# Altium footprint library RFID  Board PCB.PcbLib: 57 footprints (part 3 of 4)
Each footprint in its own frame and in the unit in brackets; x right, y up, seen from the top. Pads: shape width x height; smd on the part's side, far side on the other; paste and mask are expansions set on the pad; w line width, h text height; cw(c..) or ccw(c..) is an arc to the next point about the centre after c.
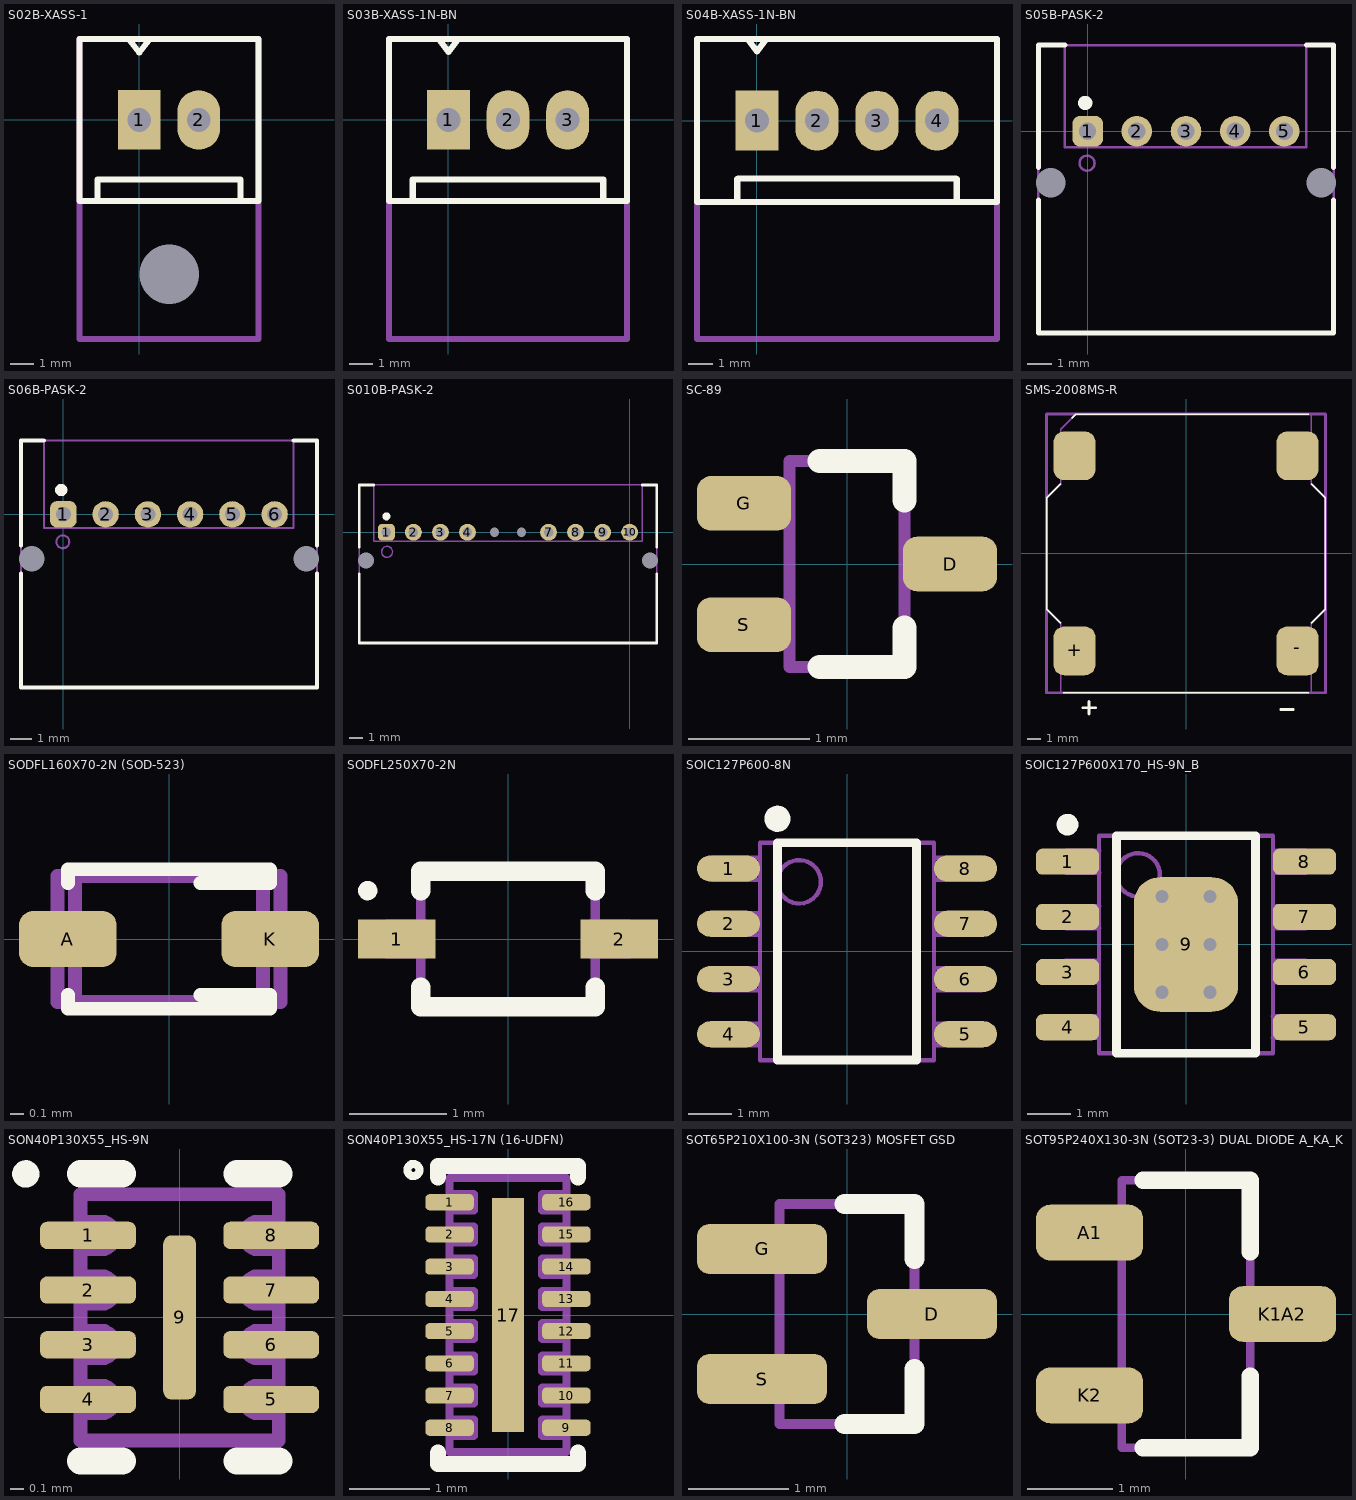
[diagram p2: the footprints below, top view; thin cyan lines are the x and y axes]

## S02B-XASS-1 [mm] "JST - XA Side Entry, 2 ways, 2.5mm pitch"
height 7.6
pads (3):
  rect 1.8x2.5 hole 1: 1(0,0)
  oval 1.8x2.5 hole 1: 2(2.5,0)
  round 0 hole 2.5 unplated: ""(1.27,-6.477)
Top Overlay:
  lines w0.254: -2.5,-3.4 -2.5,3.4 ; -2.5,-3.4 5,-3.4 5,3.4 -2.5,3.4 ; -1.75,-3.4 -1.75,-2.5 ; -1.7,-2.5 4.2,-2.5 ; -0.381,3.333 0,2.825 0.381,3.333 ; 4.25,-3.4 4.25,-2.5
Mechanical 5:
  lines w0.254: -2.5,-9.2 -2.5,3.4 5,3.4 5,-9.2 -2.5,-9.2
3D body "S02B-XASS-1.STEP": height 7.6, standoff -3.5, extent -2.48,-9.171 5.02,3.429

## S03B-XASS-1N-BN [mm] "JST - XA Side entry Connector 3 ways"
height 7.6
pads (3):
  rect 1.8x2.5 hole 1: 1(0,0)
  oval 1.8x2.5 hole 1: 2(2.5,0) 3(5,0)
Top Overlay:
  lines w0.254: -1.5,-3.4 -1.5,-2.5 6.5,-2.5 6.5,-3.4 ; -0.381,3.358 0,2.85 0.381,3.358 ; -2.5,-3.4 7.5,-3.4 7.5,3.4 -2.5,3.4 -2.5,-3.4
Mechanical 5:
  lines w0.254: -2.5,-9.2 -2.5,3.4 7.5,3.4 7.5,-9.2 -2.5,-9.2
3D body "S03B-XASS-1N-BN.STEP": height 2.75, standoff -8.05, extent -2.5,-9.2 7.5,3.4

## S04B-XASS-1N-BN [mm] "JST - XA Side Entry, 4 ways, 2.5mm pitch"
height 7.6
pads (4):
  rect 1.8x2.5 hole 1: 1(0,0)
  oval 1.8x2.5 hole 1: 2(2.5,0) 3(5,0) 4(7.5,0)
Top Overlay:
  lines w0.254: -0.822,-3.4 -0.822,-2.438 ; -0.8,-2.413 8.3,-2.413 ; -0.381,3.383 0,2.875 0.381,3.383 ; 8.322,-3.4 8.322,-2.438 ; -2.5,-3.4 10,-3.4 10,3.4 -2.5,3.4 -2.5,-3.4
Mechanical 5:
  lines w0.254: -2.5,-9.1 -2.5,3.4 10,3.4 10,-9.1 -2.5,-9.1
3D body "S04B-XASS-1N-BN.STEP": height 2.75, standoff -8.05, extent -2.5,-9.1 10,3.5

## S05B-PASK-2 [mm]
height 7
pads (7):
  rrect50% 1.25x1.25 hole 0.7: 1(0,0)
  round 1.25 hole 0.7: 2(2,0) 3(4,0) 4(6,0) 5(8,0)
  round 0 hole 1.2 unplated paste-5 mask-5: ""(-1.5,-2.1) ""(9.5,-2.1)
Top Overlay:
  circle w0.3: c-0.1,1.15 r0.141
  lines w0.2: -2,-2.8 -2,-8.2 10,-8.2 10,-2.8 ; -2,-1.475 -2,3.5 -0.925,3.5 ; 8.9,3.5 10,3.5 10,-1.475
Mechanical 13:
  circle w0.1: c-0.025,-1.3 r0.305
  lines w0.1: -2,-8.2 10,-8.2 ; -2,-8.2 -2,-8.2 ; -2,-8.2 -2,3.5 10,3.5 ; -2,-8.2 -2,-8.2 ; 10,-8.2 10,3.5 ; 10,-8.2 10,-8.2 ; 10,3.5 10,3.5
  text ".Designator" at 0.725,-3.875 h1.5
Mechanical 15:
  lines w0.102: -2,-8.2 -2,3.5 -0.925,3.5 -0.925,-0.65 -0.6,-0.65 8.9,-0.65 8.9,3.5 10,3.5 ; -2,-8.2 -2,-8.2 ; -2,-8.2 10,-8.2 ; 10,-8.2 10,-5.275 10,0.575 10,3.5 ; 10,-8.2 10,-8.2 ; 10,3.5 10,3.5
3D body "S05B-PASK-2.STEP": height 6.5, standoff -3.4, extent -2,-8.2 10,3.5

## S06B-PASK-2 [mm]
height 7
pads (8):
  rrect50% 1.25x1.25 hole 0.7: 1(0,0)
  round 1.25 hole 0.7: 2(2,0) 3(4,0) 4(6,0) 5(8,0) 6(10,0)
  round 0 hole 1.2 unplated paste-5 mask-5: ""(-1.5,-2.1) ""(11.5,-2.1)
Top Overlay:
  circle w0.3: c-0.1,1.15 r0.141
  lines w0.2: -2,-2.8 -2,-8.2 12,-8.2 12,-2.8 ; -2,-1.475 -2,3.5 -0.925,3.5 ; 10.9,3.5 12,3.5 12,-1.475
Mechanical 13:
  circle w0.1: c-0.025,-1.3 r0.305
  lines w0.1: -2,-8.2 12,-8.2 ; -2,-8.2 -2,-8.2 ; -2,-8.2 -2,3.5 12,3.5 ; -2,-8.2 -2,-8.2 ; 12,-8.2 12,3.5 ; 12,-8.2 12,-8.2 ; 12,3.5 12,3.5
  text ".Designator" at 0.725,-3.875 h1.5
Mechanical 15:
  lines w0.102: -2,-8.2 -2,3.5 -0.925,3.5 -0.925,-0.65 -0.6,-0.65 10.9,-0.65 10.9,3.5 12,3.5 ; -2,-8.2 -2,-8.2 ; -2,-8.2 12,-8.2 ; 12,-8.2 12,-5.275 12,0.575 12,3.5 ; 12,-8.2 12,-8.2 ; 12,3.5 12,3.5
3D body "S06B-PASK-2.STEP": height 6.5, standoff -3.4, extent -2,-8.2 12,3.5

## S010B-PASK-2 [mm]
height 7
pads (12):
  rrect50% 1.25x1.25 hole 0.7: 1(-18,0)
  round 1.25 hole 0.7: 2(-16,0) 3(-14,0) 4(-12,0) 7(-6,0) 8(-4,0) 9(-2,0) 10(0,0)
  round 0 hole 0.7 unplated paste+0 mask+0: 5(-10,0) 6(-8,0)
  round 0 hole 1.2 unplated paste-5 mask-5: ""(-19.5,-2.1) ""(1.5,-2.1)
Top Overlay:
  circle w0.3: c-18,1.175 r0.141
  lines w0.2: -20,-3.075 -20,-8.2 ; -20,-1.1 -20,3.5 -18.925,3.5 ; 0.925,3.5 2,3.5 2,-1.1 ; 2,-3.075 2,-8.2 ; -20,-8.2 -20,-8.2 ; -20,-8.2 2,-8.2 ; 2,-8.2 2,-8.2 ; 2,-8.2 2,-8.2
Mechanical 13:
  circle w0.1: c-17.95,-1.45 r0.407
  lines w0.1: -20,-8.2 -20,3.5 2,3.5 ; -20,-8.2 -20,-8.2 ; -20,-8.2 2,-8.2 ; 2,-8.2 2,-8.2 ; 2,-8.2 2,3.5 ; 2,3.5 2,3.5
  text ".Designator" at -9.15,-3.125 h1.5
Mechanical 15:
  lines w0.102: -18.925,3.5 -20,3.5 -20,-8.2 2,-8.2 2,3.5 ; -18.925,3.5 -18.925,3.5 ; -18.925,3.5 -18.925,-0.675 0.925,-0.675 0.925,3.5 ; 0.925,3.5 2,3.5 ; 0.925,3.5 0.925,3.5 ; 2,3.5 2,3.5
3D body "S10B-PASK-2.STEP": height 6.5, standoff -3.4, extent -20,-8.2 2,3.5

## SC-89 [mm] "SOT89, 3-Leads, Body 1.7x1.7mm (max), Pitch 0.50mm, IPC Medium Density"
height 0.8
pads (3):
  rrect50% 0.775x0.45 smd: D(0.85,0) G(-0.85,0.5) S(-0.85,-0.5)
Top Overlay:
  lines w0.2: -0.225,-0.85 0.475,-0.85 0.475,-0.525 ; -0.225,0.85 0.475,0.85 0.475,0.525
Mechanical 13:
  lines w0.1: -0.475,-0.85 0.475,-0.85 0.475,0.85 -0.475,0.85 -0.475,-0.85
  text ".Designator" at -0.2,0.725 h0.4
Mechanical 15:
  lines w0.1: -0.975,-0.665 -0.475,-0.665 -0.475,-0.335 -0.975,-0.335 -0.975,-0.665 ; -0.975,0.335 -0.475,0.335 -0.475,0.665 -0.975,0.665 -0.975,0.335 ; -0.475,-0.85 -0.475,0.85 0.475,0.85 0.475,-0.85 -0.475,-0.85 ; 0.475,-0.165 0.475,0.165 0.975,0.165 0.975,-0.165 0.475,-0.165
3D body: height 0.8, standoff 0, extent -0.475,-0.85 0.475,0.85

## SMS-2008MS-R [mm] "Speaker SMT, 20x20mm"
height 4.5
pads (4):
  rrect50% 3x3.5 smd: +(-8,-7) -(8,-7) ""(-8,7) ""(8,7)
Top Overlay:
  lines w0.1: -9,-5 -10,-4 -10,0 -10,4 -9,5 ; -8.825,-10 8.825,-10 ; -8.2,9.7 -7.9,10 8.825,10 ; 9,-5 10,-4 10,0 10,4 9,5
  lines w0.2: -7.4,-11.075 -6.5,-11.075 ; -6.95,-11.525 -6.95,-10.625 ; 6.8,-11.2 7.7,-11.2
Mechanical 13:
  circle w0.1: c-7.1,-6 r0.5
  lines w0.2: -10,-10 10,-10 10,10 -10,10 -10,-10
  text ".Designator" at -5.85,0.325 h2
Mechanical 15:
  lines w0.1: -10,-4 -10,0 -10,4 -9,5 -9,8.9 -8.2,9.7 -7.9,10 9,10 9,5 10,4 10,0 10,-4 9,-5 9,-10 -9,-10 -9,-5 -10,-4 ; -9,-8.5 -9,-5.5 -7,-5.5 -7,-8.5 -9,-8.5 ; -9,5.5 -7,5.5 -7,8.5 -9,8.5 -9,5.5 ; 7,-8.5 9,-8.5 9,-5.5 7,-5.5 7,-8.5 ; 7,5.5 9,5.5 9,8.5 7,8.5 7,5.5
3D body "SMS-2008MS-R.stp": height 4.75, standoff 0.15, extent -10,-10 10,10

## SODFL160X70-2N (SOD-523) [mm] "SODFL, 2-Leads, Body 0.80x1.60mm, IPC Medium Density"
height 0.7
pads (2):
  rrect50% 0.7x0.4 smd: A(-0.725,0) K(0.725,0)
Top Overlay:
  lines w0.1: -0.725,-0.4 -0.725,-0.5 0.725,-0.5 0.725,-0.4 0.225,-0.4 ; -0.725,0.4 -0.725,0.5 0.725,0.5 0.725,0.4 0.225,0.4
Mechanical 13:
  lines w0.1: -0.8,-0.45 0.8,-0.45 0.8,0.45 -0.8,0.45 -0.8,-0.45
  text ".Designator" at -0.25,-0.125 h0.3
Mechanical 15:
  lines w0.1: -0.675,-0.475 0.675,-0.475 ; -0.675,-0.45 -0.675,0.45 ; -0.675,0.475 0.675,0.475 ; 0.675,-0.45 0.675,0.45 ; -0.85,-0.15 -0.85,0.15 -0.55,0.15 -0.55,-0.15 -0.85,-0.15 ; 0.55,-0.15 0.85,-0.15 0.85,0.15 0.55,0.15 0.55,-0.15
3D body "SOD-523F.STEP": height 0.7, standoff 0, extent -0.8,-0.399 0.8,0.399

## SODFL250X70-2N [mm] "SODFL, 2-Leads, Body 1.25x2.50mm, IPC Medium Density"
height 0.7
pads (2):
  rect 0.8x0.4 smd: 1(-1.15,0) 2(1.15,0)
Top Overlay:
  circle w0.1: c-1.45,0.5 r0.05
  lines w0.2: -0.9,-0.5 -0.9,-0.7 0.9,-0.7 0.9,-0.5 ; -0.9,0.5 -0.9,0.7 0.9,0.7 0.9,0.5
Mechanical 13:
  lines w0.1: -0.9,-0.675 0.9,-0.675 0.9,0.675 -0.9,0.675 -0.9,-0.675
  text ".Designator" at -0.675,-0.175 h0.5
Mechanical 15:
  lines w0.1: -1.25,-0.15 -0.85,-0.15 -0.85,0.15 -1.25,0.15 -1.25,-0.15 ; -0.9,-0.7 -0.9,0.7 0.9,0.7 0.9,-0.7 -0.9,-0.7 ; 0.85,-0.15 1.25,-0.15 1.25,0.15 0.85,0.15 0.85,-0.15
3D body: height 0.7, standoff 0, extent -0.9,-0.675 0.9,0.675

## SOIC127P600-8N [mm]
height 1.7
pads (8):
  oval 1.45x0.6 smd: 1(-2.725,1.905) 2(-2.725,0.635) 3(-2.725,-0.635) 4(-2.725,-1.905) 5(2.725,-1.905) 6(2.725,-0.635) 7(2.725,0.635) 8(2.725,1.905)
Top Overlay:
  circle w0.3: c-1.6,3.05 r0.15
  lines w0.2: -1.6,-2.5 1.6,-2.5 1.6,2.5 -1.6,2.5 -1.6,-2.5
Mechanical 13:
  circle w0.1: c-1.1,1.6 r0.5
  lines w0.1: -2,-2.5 2,-2.5 2,2.5 -2,2.5 -2,-2.5
  text ".Designator" at -1.475,-0.75 h1.5
Mechanical 15:
  lines w0.1: -2,-2.16 -2.625,-2.16 ; -2,-1.66 -2.625,-1.66 ; -2,-0.89 -2.625,-0.89 ; -2,-0.39 -2.625,-0.39 ; -2,0.38 -2.625,0.38 ; -2,0.88 -2.625,0.88 ; -2,1.65 -2.625,1.65 ; -2,2.15 -2.625,2.15 ; 2,-2.16 2.625,-2.16 ; 2,-1.66 2.625,-1.66 ; 2,-0.89 2.625,-0.89 ; 2,-0.39 2.625,-0.39 ; 2,0.38 2.625,0.38 ; 2,0.88 2.625,0.88 ; 2,1.65 2.625,1.65 ; 2,2.15 2.625,2.15 ; -2.625,-2.16 -2.625,-1.66 ; -2.625,-2.16 -3.1,-2.16 -3.1,-1.66 -2.625,-1.66 ; -2.625,-0.89 -2.625,-0.39 ; -2.625,-0.89 -3.1,-0.89 -3.1,-0.39 -2.625,-0.39 ; -2.625,0.38 -2.625,0.88 ; -2.625,0.38 -3.1,0.38 -3.1,0.88 -2.625,0.88 ; -2.625,1.65 -2.625,2.15 ; -2.625,1.65 -3.1,1.65 -3.1,2.15 -2.625,2.15 ; 2.625,-2.16 3.1,-2.16 3.1,-1.66 2.625,-1.66 ; 2.625,-2.16 2.625,-1.66 ; 2.625,-0.89 3.1,-0.89 3.1,-0.39 2.625,-0.39 ; 2.625,-0.89 2.625,-0.39 ; 2.625,0.38 3.1,0.38 3.1,0.88 2.625,0.88 ; 2.625,0.38 2.625,0.88 ; 2.625,1.65 3.1,1.65 3.1,2.15 2.625,2.15 ; 2.625,1.65 2.625,2.15 ; -2,-2.5 2,-2.5 2,2.5 -2,2.5 -2,-2.5
3D body: height 1.7, standoff 0.1, extent -2,-2.5 2,2.5

## SOIC127P600X170_HS-9N_B [mm] "SOIC, 8-Leads, Body 4.90x3.90mm, Pitch 1.27mm, Thermal Pad 3.10x2.40mm, IPC Medium Density"
height 1.7
pads (9):
  rrect50% 1.45x0.6 smd: 1(-2.725,1.905) 2(-2.725,0.635) 3(-2.725,-0.635) 4(-2.725,-1.905) 5(2.725,-1.905) 6(2.725,-0.635) 7(2.725,0.635) 8(2.725,1.905)
  rrect50% 2.4x3.1 smd: 9(0,0)
via -0.55,1.1 diameter 0.5 hole 0.3
via 0.55,1.1 diameter 0.5 hole 0.3
via -0.55,0 diameter 0.5 hole 0.3
via 0.55,0 diameter 0.5 hole 0.3
via -0.55,-1.1 diameter 0.5 hole 0.3
via 0.55,-1.1 diameter 0.5 hole 0.3
Top Overlay:
  circle w0.25: c-2.725,2.755 r0.125
  lines w0.2: -1.6,-2.5 -1.6,2.5 1.6,2.5 1.6,-2.5 -1.6,-2.5
Mechanical 13:
  circle w0.1: c-1.1,1.6 r0.5
  lines w0.1: -2,-2.5 -2,2.5 2,2.5 2,-2.5 -2,-2.5
  text ".Designator" at 1,-2.425 h1.5
Mechanical 15:
  lines w0.1: -2,-2.5 -2,2.5 2,2.5 2,-2.5 -2,-2.5
  lines w0.102: -2.05,-0.875 -2.775,-0.875 -2.775,-0.375 -2.05,-0.375 ; -2.025,-2.15 -2.75,-2.15 -2.75,-1.65 -2.025,-1.65 ; -2,0.375 -2.75,0.375 -2.75,0.875 -2,0.875 ; -2,1.65 -2.75,1.65 -2.75,2.15 -2,2.15 ; 2,-2.15 2.75,-2.15 2.75,-1.65 2,-1.65 ; 2.025,1.65 2.75,1.65 2.75,2.15 2.025,2.15 ; 2.05,-0.875 2.75,-0.875 2.75,-0.375 2.05,-0.375 ; 2.075,0.375 2.75,0.375 2.75,0.875 2.075,0.875
3D body: height 1.7, standoff 0.1, extent -2,-2.5 2,2.5

## SON40P130X55_HS-9N [mm] "SON, 8-Leads, Body 1.70x1.35mm, Pitch 0.40mm, Thermal Pad 1.20x0.24mm, IPC Medium Density"
height 0.55
pads (9):
  rrect50% 0.7x0.2 smd: 1(-0.67,0.6) 2(-0.67,0.2) 3(-0.67,-0.2) 4(-0.67,-0.6) 5(0.67,-0.6) 6(0.67,-0.2) 7(0.67,0.2) 8(0.67,0.6)
  rrect50% 0.24x1.2 smd: 9(0,0)
Top Overlay:
  circle w0.1: c-1.125,1.05 r0.05
  lines w0.2: -0.725,-1.05 -0.42,-1.05 ; -0.725,1.05 -0.42,1.05 ; 0.42,-1.05 0.725,-1.05 ; 0.42,1.05 0.725,1.05
Mechanical 13:
  lines w0.1: -0.725,-0.9 0.725,-0.9 0.725,0.9 -0.725,0.9 -0.725,-0.9
  text ".Designator" at -0.42,-0.225 h0.6
Mechanical 15:
  lines w0.1: -0.725,-0.7 -0.55,-0.7 ; -0.725,-0.5 -0.55,-0.5 ; -0.725,-0.3 -0.55,-0.3 ; -0.725,-0.1 -0.55,-0.1 ; -0.725,0.1 -0.55,0.1 ; -0.725,0.3 -0.55,0.3 ; -0.725,0.5 -0.55,0.5 ; -0.725,0.7 -0.55,0.7 ; -0.575,-0.7 ccw(c-0.575,-0.6) -0.575,-0.5 ; -0.575,-0.3 ccw(c-0.575,-0.2) -0.575,-0.1 ; -0.575,0.1 ccw(c-0.575,0.2) -0.575,0.3 ; -0.575,0.5 ccw(c-0.575,0.6) -0.575,0.7 ; 0.55,-0.7 0.725,-0.7 ; 0.55,-0.5 0.725,-0.5 ; 0.55,-0.3 0.725,-0.3 ; 0.55,-0.1 0.725,-0.1 ; 0.55,0.1 0.725,0.1 ; 0.55,0.3 0.725,0.3 ; 0.55,0.5 0.725,0.5 ; 0.55,0.7 0.725,0.7 ; 0.575,-0.7 cw(c0.575,-0.6) 0.575,-0.5 ; 0.575,-0.3 cw(c0.575,-0.2) 0.575,-0.1 ; 0.575,0.1 cw(c0.575,0.2) 0.575,0.3 ; 0.575,0.5 cw(c0.575,0.6) 0.575,0.7 ; -0.725,-0.9 0.725,-0.9 0.725,0.9 -0.725,0.9 -0.725,-0.9
3D body: height 0.55, standoff 0.05, extent -0.725,-0.9 0.725,0.9

## SON40P130X55_HS-17N (16-UDFN) [mm] "SON, 16-Leads, Body 3.30x1.35mm, Pitch 0.40mm, Thermal Pad 2.90x0.24mm, IPC Medium Density"
height 0.55
pads (17):
  rrect50% 0.6x0.2 smd: 1(-0.725,1.4) 2(-0.725,1) 3(-0.725,0.6) 4(-0.725,0.2) 5(-0.725,-0.2) 6(-0.725,-0.6) 7(-0.725,-1) 8(-0.725,-1.4) 9(0.725,-1.4) 10(0.725,-1) 11(0.725,-0.6) 12(0.725,-0.2) 13(0.725,0.2) 14(0.725,0.6) 15(0.725,1) 16(0.725,1.4)
  rect 0.4x2.9 smd: 17(0,0)
Top Overlay:
  circle w0.1: c-1.175,1.8 r0.075
  lines w0.2: -0.87,-1.71 -0.87,-1.85 -0.83,-1.85 0.869,-1.85 0.87,-1.85 0.87,-1.71 ; -0.87,1.71 -0.87,1.85 -0.869,1.85 0.83,1.85 0.87,1.85 0.87,1.71
Mechanical 13:
  lines w0.1: -0.725,-1.7 -0.725,1.7 0.725,1.7 0.725,-1.7 -0.725,-1.7
  text ".Designator" at 0.175,-0.825 h0.5
Mechanical 15:
  lines w0.1: -0.725,-1.7 -0.725,1.7 0.725,1.7 0.725,-1.7 -0.725,-1.7 ; -0.725,-1.5 -0.725,-1.3 -0.425,-1.3 -0.425,-1.5 -0.725,-1.5 ; -0.725,-1.1 -0.425,-1.1 -0.425,-0.9 -0.725,-0.9 -0.725,-1.1 ; -0.725,-0.7 -0.725,-0.5 -0.425,-0.5 -0.425,-0.7 -0.725,-0.7 ; -0.725,-0.3 -0.425,-0.3 -0.425,-0.1 -0.725,-0.1 -0.725,-0.3 ; -0.725,0.1 -0.725,0.3 -0.425,0.3 -0.425,0.1 -0.725,0.1 ; -0.725,0.5 -0.425,0.5 -0.425,0.7 -0.725,0.7 -0.725,0.5 ; -0.725,0.9 -0.725,1.1 -0.425,1.1 -0.425,0.9 -0.725,0.9 ; -0.725,1.3 -0.425,1.3 -0.425,1.5 -0.725,1.5 -0.725,1.3 ; 0.425,-1.5 0.725,-1.5 0.725,-1.3 0.425,-1.3 0.425,-1.5 ; 0.425,-1.1 0.725,-1.1 0.725,-0.9 0.425,-0.9 0.425,-1.1 ; 0.425,-0.7 0.725,-0.7 0.725,-0.5 0.425,-0.5 0.425,-0.7 ; 0.425,-0.3 0.725,-0.3 0.725,-0.1 0.425,-0.1 0.425,-0.3 ; 0.425,0.1 0.725,0.1 0.725,0.3 0.425,0.3 0.425,0.1 ; 0.425,0.5 0.725,0.5 0.725,0.7 0.425,0.7 0.425,0.5 ; 0.425,0.9 0.725,0.9 0.725,1.1 0.425,1.1 0.425,0.9 ; 0.425,1.3 0.725,1.3 0.725,1.5 0.425,1.5 0.425,1.3
3D body: height 0.55, standoff 0, extent -0.725,-1.7 0.725,1.7
3D body: height 0.13, standoff -0.01, extent -0.728,1.3 -0.428,1.5
3D body: height 0.13, standoff -0.01, extent -0.728,0.9 -0.428,1.1
3D body: height 0.13, standoff -0.01, extent -0.728,0.5 -0.428,0.7
3D body: height 0.13, standoff -0.01, extent -0.728,0.1 -0.428,0.3
3D body: height 0.13, standoff -0.01, extent -0.728,-0.3 -0.428,-0.1
3D body: height 0.13, standoff -0.01, extent -0.728,-0.7 -0.428,-0.5
3D body: height 0.13, standoff -0.01, extent -0.728,-1.1 -0.428,-0.9
3D body: height 0.13, standoff -0.01, extent -0.728,-1.5 -0.428,-1.3
3D body: height 0.13, standoff -0.01, extent 0.428,-1.5 0.728,-1.3
3D body: height 0.13, standoff -0.01, extent 0.428,-1.1 0.728,-0.9
3D body: height 0.13, standoff -0.01, extent 0.428,-0.7 0.728,-0.5
3D body: height 0.13, standoff -0.01, extent 0.428,-0.3 0.728,-0.1
3D body: height 0.13, standoff -0.01, extent 0.428,0.1 0.728,0.3
3D body: height 0.13, standoff -0.01, extent 0.428,0.5 0.728,0.7
3D body: height 0.13, standoff -0.01, extent 0.428,0.9 0.728,1.1
3D body: height 0.13, standoff -0.01, extent 0.428,1.3 0.728,1.5

## SOT65P210X100-3N (SOT323) MOSFET GSD [mm] "SOT323, 3-Leads, Body 2.2x2.2mm (max), Pitch 0.65mm, IPC Medium Density"
height 1.1
pads (3):
  rrect50% 1.3x0.5 smd: D(0.85,0) G(-0.85,0.65) S(-0.85,-0.65)
Top Overlay:
  lines w0.2: -0.025,-1.1 0.675,-1.1 0.675,-0.55 ; -0.025,1.1 0.675,1.1 0.675,0.55
Mechanical 13:
  lines w0.1: -0.675,-1.1 0.675,-1.1 0.675,1.1 -0.675,1.1 -0.675,-1.1
  text ".Designator" at -0.25,0.925 h0.5
Mechanical 15:
  lines w0.1: -0.675,-0.85 -1.075,-0.85 -1.075,-0.45 -0.675,-0.45 ; -0.675,0.45 -1.075,0.45 -1.075,0.85 -0.675,0.85 ; 0.675,-0.2 1.075,-0.2 1.075,0.2 0.675,0.2 ; -0.675,-1.1 -0.675,1.1 0.675,1.1 0.675,-1.1 -0.675,-1.1
3D body: height 1.1, standoff 0.1, extent -0.675,-1.1 0.675,1.1

## SOT95P240X130-3N (SOT23-3) DUAL DIODE A_KA_K [mm] "SOT23, 3-Leads, Body 3.1x2.7mm (max), Pitch 0.95mm, IPC Medium Density"
height 1.3
pads (3):
  rrect50% 1.25x0.65 smd: A1(-1.125,0.95) K1A2(1.125,0) K2(-1.125,-0.95)
Top Overlay:
  lines w0.2: -0.5,-1.56 0.75,-1.56 0.75,-0.725 ; -0.5,1.56 0.75,1.56 0.75,0.725
Mechanical 13:
  lines w0.1: -0.75,-1.56 0.75,-1.56 0.75,1.56 -0.75,1.56 -0.75,-1.56
  text ".Designator" at -0.35,1.3 h0.7
Mechanical 15:
  lines w0.1: -0.9,-1.19 -0.75,-1.19 -0.75,-0.71 -0.9,-0.71 ; -0.9,-1.19 -0.9,-0.71 ; -0.9,-1.19 -1.35,-1.19 -1.35,-0.71 -0.9,-0.71 ; -0.9,0.71 -1.35,0.71 -1.35,1.19 -0.9,1.19 ; -0.9,0.71 -0.9,1.19 ; -0.9,0.71 -0.75,0.71 -0.75,1.19 -0.9,1.19 ; 0.9,-0.24 0.75,-0.24 0.75,0.24 0.9,0.24 ; 0.9,-0.24 0.9,0.24 ; 0.9,-0.24 1.35,-0.24 1.35,0.24 0.9,0.24 ; -0.75,-1.56 -0.75,1.56 0.75,1.56 0.75,-1.56 -0.75,-1.56
3D body: height 1.3, standoff 0.05, extent -0.75,-1.56 0.75,1.56